# Altium footprint library ST TO-263-7.PCBLIB: 1 footprints
Each footprint in its own frame and in the unit in brackets; x right, y up, seen from the top. Pads: shape width x height; smd on the part's side, far side on the other; paste and mask are expansions set on the pad; w line width, h text height; cw(c..) or ccw(c..) is an arc to the next point about the centre after c.
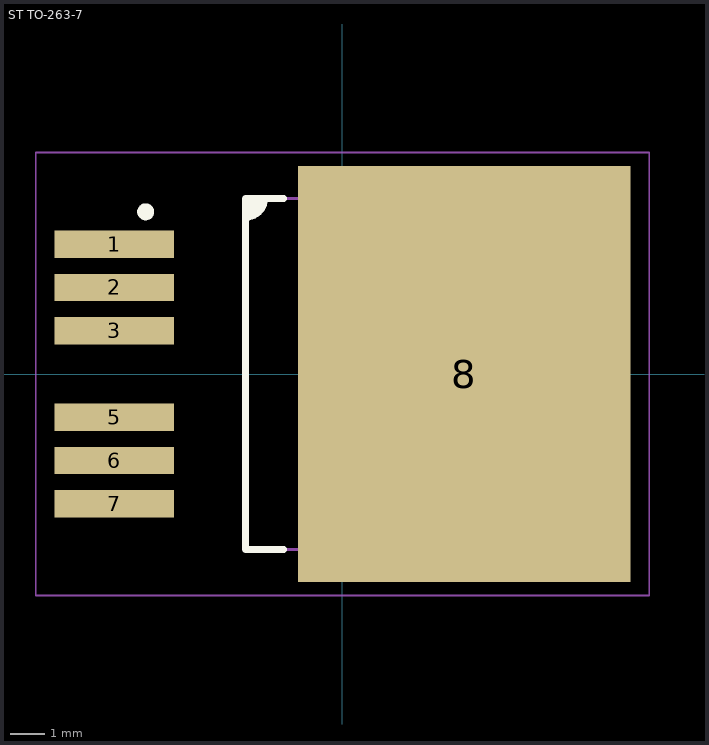
[diagram p0: the footprint, top view; thin cyan lines are the x and y axes]

## ST TO-263-7 [mm] "D2-PAK, 7-Pads, Body 7.82x8.52mm (max), IPC Medium Density"
height 4.57
pads (7):
  rect 3.5x0.8 smd: 1(-6.7,3.81) 2(-6.7,2.54) 3(-6.7,1.27) 5(-6.7,-1.27) 6(-6.7,-2.54) 7(-6.7,-3.81)
  rect 9.75x12.2 smd: 8(3.575,0)
Top Overlay:
  circle w0.25: c-5.775,4.76 r0.125
  region: -2.85,5.15 -2.288,5.15 -2.288,5.041 -2.371,4.838 -2.526,4.684 -2.728,4.6 -2.838,4.6 -2.85,4.6
  lines w0.2: -2.85,4.6 -2.838,4.6 ccw(c-2.838,5.15) -2.288,5.15 ; -1.725,-5.15 -2.85,-5.15 -2.85,5.15 -1.725,5.15
Mechanical 13:
  lines w0.1: -2.85,-5.15 -2.85,5.15 6.6,5.15 6.6,-5.15 -2.85,-5.15
Mechanical 15:
  lines w0.05: -9,-6.5 -9,6.5 9,6.5 9,-6.5 -9,-6.5
  lines w0.1: -0.5,0 0.5,0 ; 0,-0.5 0,0.5
3D body "TO-263-7.STEP": height 4.54, standoff 0, extent -7.62,-5.08 7.63,5.08